# EAGLE library part 490107672012 (library sensor_floor)
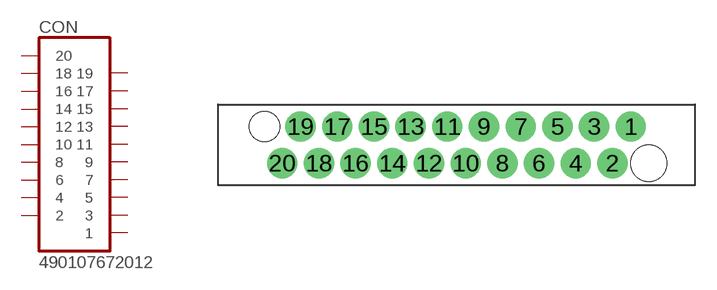
[diagram p2: symbol with the pads of 490107672012; footprint 490107672012]

Designator prefix CON

## 490107672012  [490107672012]
1  1  pas
2  2  pas
3  3  pas
4  4  pas
5  5  pas
6  6  pas
7  7  pas
8  8  pas
9  9  pas
10  10  pas
11  11  pas
12  12  pas
13  13  pas
14  14  pas
15  15  pas
16  16  pas
17  17  pas
18  18  pas
19  19  pas
20  20  pas

## Footprint 490107672012 (pad centres in mm)
WR-WST REDFIT IDC SKEDD Connector Plated through-holes: - Surface: chemical Ni/Au - min. 20µm Cu - final diameter: 1,4mm +0,1/-0,05 Non plated through-holes: - Tolerances: +/- 0,05 Details see product data sheet.
drill 1.4 pad 1.42: 1 12.065,1.27; 2 10.795,-1.27; 3 9.525,1.27; 4 8.255,-1.27; 5 6.985,1.27; 6 5.715,-1.27; 7 4.445,1.27; 8 3.175,-1.27; 9 1.905,1.27; 10 0.635,-1.27; 11 -0.635,1.27; 12 -1.905,-1.27; 13 -3.175,1.27; 14 -4.445,-1.27; 15 -5.715,1.27; 16 -6.985,-1.27; 17 -8.255,1.27; 18 -9.525,-1.27; 19 -10.795,1.27; 20 -12.065,-1.27
hole 2.1 at -13.295,1.27
hole 2.5 at 13.295,-1.27